# Altium schematic symbol library FPGAboard.SchLib: 46 symbols (part 2 of 2)
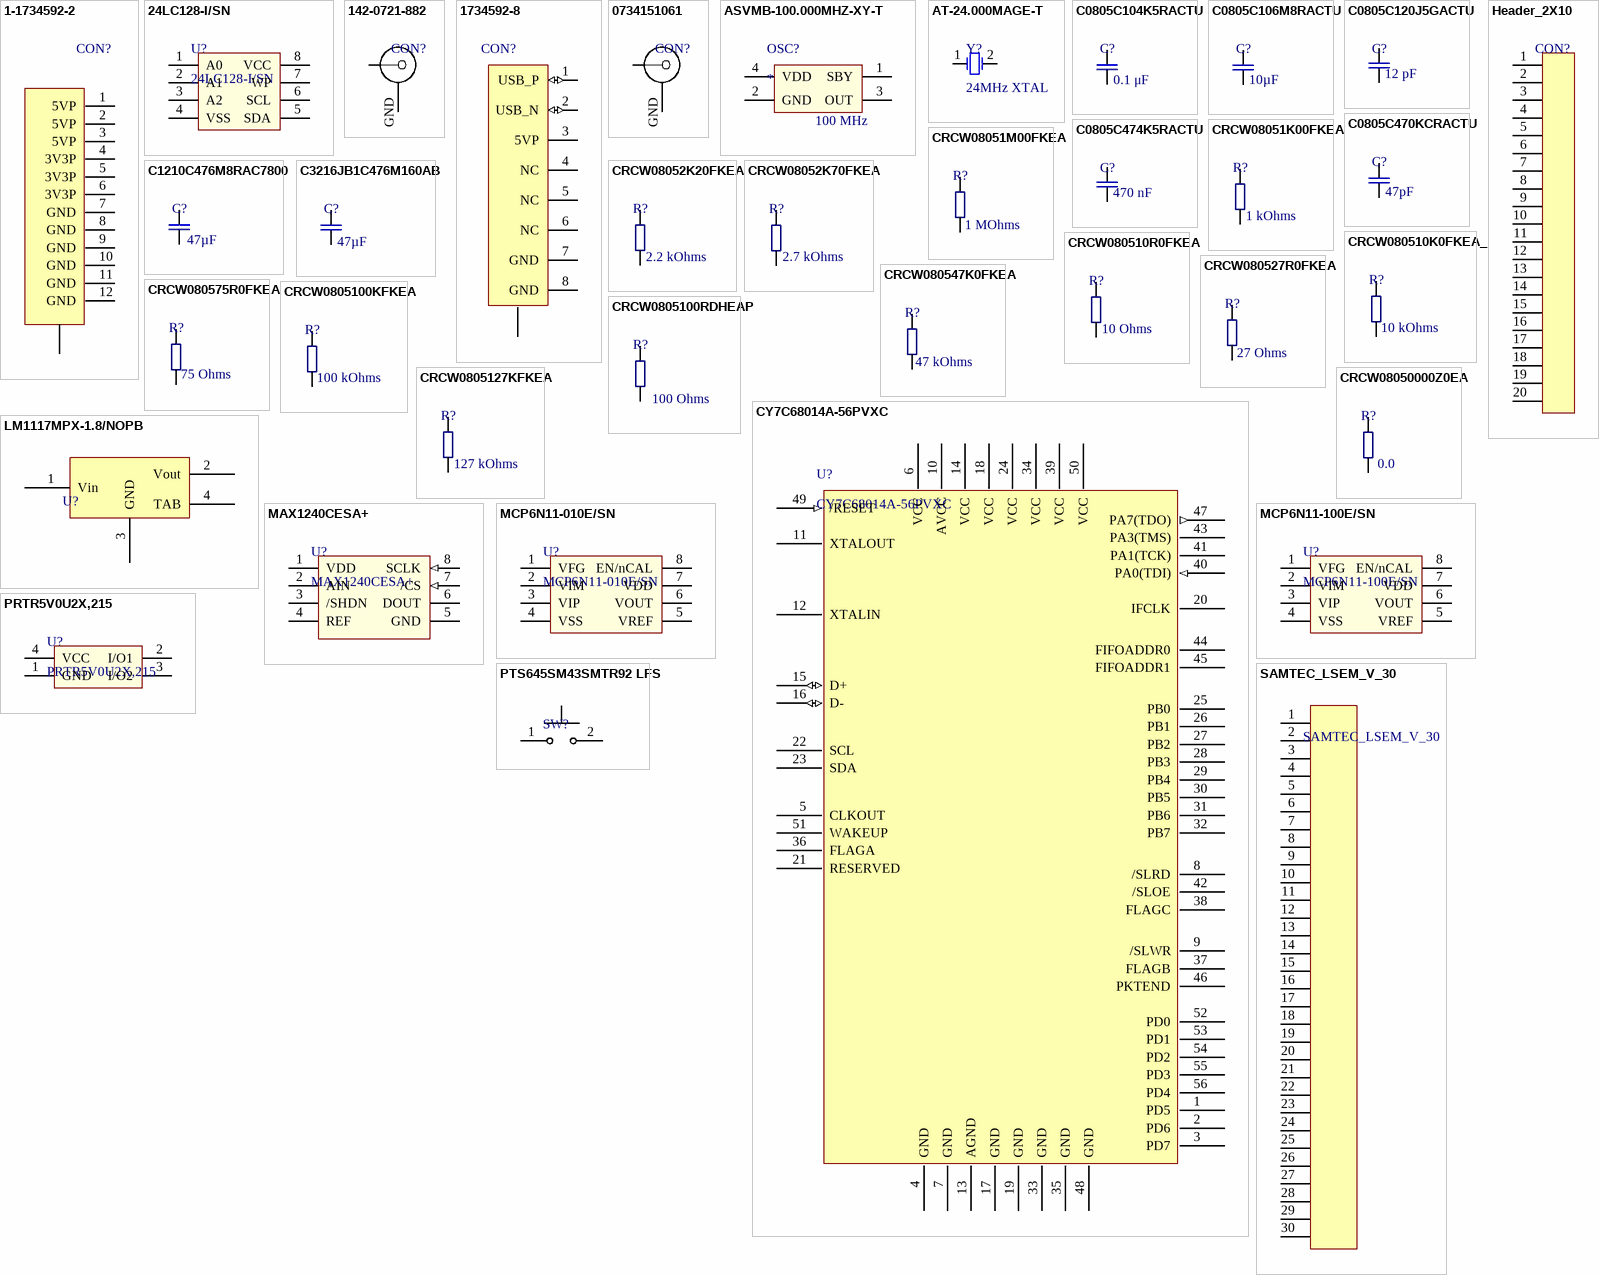
[diagram p2: symbols 1-1734592-2 to SAMTEC_LSEM_V_30]

## CRCW08050000Z0EA
designator R?  Resistance (Ohms): 0.0  (hidden comment: *)
Manufacturer: Vishay; Manufacturer Part Number: CRCW08050000Z0EA; EDA / CAD Models: Download from Accelerated Designs; Tolerance: Jumper; Power (Watts): 0.125W, 1/8W; Online Catalog: CRCW - Automotive Series; Kits: 541-1420-ND  - RESISTOR KIT 0-1M 1/8W 6100PCS; Other Names: 541-0.0ACT; Supplier 1: Digikey; Stock 1: 1015935; Pricing 1: 1=0.1, 10=0.026, 25=0.0184, 50=0.014, 100=0.0104, 250=0.0079, 500=0.0063, 1000=0.0047 (USD); Standard Package: 1; Category: Resistors; Family: Chip Resistor - Surface Mount; Series: CRCW; Packaging: Cut Tape (CT); Composition: Thick Film; Features: Automotive AEC-Q200; Temperature Coefficient: -; Operating Temperature: -55°C ~ 155°C; Package / Case: 0805 (2012 Metric); Supplier Device Package: 0805 (2012 Metric); Size / Dimension: 0.079" L x 0.049" W (2.00mm x 1.25mm); Height: 0.020" (0.50mm); Number of Terminations: 2; ComponentLink1URL: https://datasheet.ciiva.com/16883/dcrcwe3-16883622.pdf; ComponentLink1Description: https://datasheet.ciiva.com/16883/dcrcwe3-16883622.pdf; ComponentLink2URL: https://datasheet.ciiva.com/26314/fld-crcw-e3-data-en-26314630.pdf; ComponentLink2Description: https://datasheet.ciiva.com/26314/fld-crcw-e3-data-en-26314630.pdf; ComponentLink3URL: https://datasheet.ciiva.com/5543/dcrcwe3-109170-5543096.pdf; ComponentLink3Description: https://datasheet.ciiva.com/5543/dcrcwe3-109170-5543096.pdf; ComponentLink4URL: https://datasheet.ciiva.com/11811/0900766b80d98b26-11811304.pdf; ComponentLink4Description: https://datasheet.ciiva.com/11811/0900766b80d98b26-11811304.pdf; ComponentLink5URL: https://datasheet.ciiva.com/16389/dcrcwe3-16389338.pdf; ComponentLink5Description: https://datasheet.ciiva.com/16389/dcrcwe3-16389338.pdf; ComponentLink6URL: https://datasheet.ciiva.com/16719/70201119-16719706.pdf; ComponentLink6Description: https://datasheet.ciiva.com/16719/70201119-16719706.pdf; ComponentLink7URL: https://datasheet.ciiva.com/2463/dcrcwe3-2463037.pdf; ComponentLink7Description: https://datasheet.ciiva.com/2463/dcrcwe3-2463037.pdf; ComponentLink8URL: https://datasheet.ciiva.com/7841/1697337-7841629.pdf; ComponentLink8Description: https://datasheet.ciiva.com/7841/1697337-7841629.pdf; ComponentLink9URL: https://datasheet.ciiva.com/2463/dcrcwe3-2463038.pdf; ComponentLink9Description: https://datasheet.ciiva.com/2463/dcrcwe3-2463038.pdf; ComponentLink10URL: https://datasheet.ciiva.com/2463/dcrcwe3-2463039.pdf; ComponentLink10Description: https://datasheet.ciiva.com/2463/dcrcwe3-2463039.pdf; ComponentLink11URL: https://datasheet.ciiva.com/7841/1720486-7841839.pdf; ComponentLink11Description: https://datasheet.ciiva.com/7841/1720486-7841839.pdf; Supplier Part Number 1: 541-0.0ACT-ND
footprint CRCW0805_VISHAY
pins: 1, 2

## CY7C68014A-56PVXC
designator U?
IC MCU USB PERIPH HI SPD 56SSOP; Manufacturer: Cypress; Core: 8051; Data Bus Width: 8 bit/16 bit; Data RAM Size: 16 KB; Interface Type: GPIF, I2C, USART; Maximum Clock Frequency: 48 MHz; On-Chip ADC: No; Operating Supply Voltage: 3 V to 3.6 V; Number of Programmable I/Os: 24; Number of Timers: 3; Processor Series: CY7C68xx; Program Memory Type: ROMLess; Supply Voltage - Max: 3.6 V; Supply Voltage - Min: 3 V; Supplier 1: Digikey; Manufacturer Part Number: CY7C68014A-56PVXC; Stock 1: 503; Pricing 1: 1=13.46, 10=12.24, 52=11.3219, 104=10.404, 260=9.486, 520=8.874, 1040=8.1396 (USD); Factory Pack Quantity: 26; Mounting Style: SMD/SMT; Maximum Operating Temperature: + 70 C; Minimum Operating Temperature: 0 C; Product Category: 8-bit Microcontrollers - MCU; RoHS: Details; Operating Temperature Range: 0 C to + 70 C; Package / Case: SSOP-56; Packaging: Tube; ComponentLink1URL: https://datasheet.ciiva.com/7627/43447-7627897.pdf; ComponentLink1Description: https://datasheet.ciiva.com/7627/43447-7627897.pdf; ComponentLink2URL: https://datasheet.ciiva.com/5824/43447-5824174.pdf; ComponentLink2Description: https://datasheet.ciiva.com/5824/43447-5824174.pdf; ComponentLink3URL: https://datasheet.ciiva.com/26821/cy7c68014a-56pvxc-26821370.pdf; ComponentLink3Description: https://datasheet.ciiva.com/26821/cy7c68014a-56pvxc-26821370.pdf; Supplier Part Number 1: 428-1673-ND
footprint SSOP-56
pins: 1 PD5, 2 PD6, 3 PD7, 4 GND (power), 5 CLKOUT, 6 VCC (power), 7 GND (power), 8 /SLRD, 9 /SLWR, 10 AVCC (power), 11 XTALOUT, 12 XTALIN, 13 AGND (power), 14 VCC (power), 15 D+ (io), 16 D- (io), 17 GND (power), 18 VCC (power), 19 GND (power), 20 IFCLK, 21 RESERVED, 22 SCL, 23 SDA, 24 VCC (power), 25 PB0, 26 PB1, 27 PB2, 28 PB3, 29 PB4, 30 PB5, 31 PB6, 32 PB7, 33 GND (power), 34 VCC (power), 35 GND (power), 36 FLAGA, 37 FLAGB, 38 FLAGC, 39 VCC (power), 40 PA0(TDI) (in), 41 PA1(TCK), 42 /SLOE, 43 PA3(TMS), 44 FIFOADDR0, 45 FIFOADDR1, 46 PKTEND, 47 PA7(TDO) (out), 48 GND (power), 49 /RESET (in), 50 VCC (power), 51 WAKEUP, 52 PD0, 53 PD1, 54 PD2, 55 PD3, 56 PD4

## Header_2X10
designator CON?  (value not drawn)
Header_2X10
pins: 1, 2, 3, 4, 5, 6, 7, 8, 9, 10, 11, 12, 13, 14, 15, 16, 17, 18, 19, 20

## LM1117MPX-1.8/NOPB
designator U?
LDO; Manufacturer: Texas Instruments (TI) / National Semiconductor; Manufacturer Part Number: LM1117MPX-1.8/NOPB; DELETED: Compliant; Dropout Voltage@Current (Max): 1.2@100mA/1.25@500mA; Dropout Voltage@Current (Typ): 1.1@100mA/1.15@500mA; Input Voltage: 15 V; Line Regulation: 1mV; Number of Outputs: Single; Output Current: 1.5 A; Output Voltage: 1.8 V; Output Voltage Accuracy: ?1 %; Polarity Type: Positive; Quiescent Current (Max): 10 mA; Rad Hardened: No; Regulator Output Type: Fixed; Voltage Regulator Type: Linear; Supplier 1: Digikey; Stock 1: 19027; Pricing 1: 1=1.04, 10=0.927, 100=0.7225, 500=0.5969, 1000=0.4712 (USD); Input Voltage (Max): 15 V; Load Regulation: 1mV; Mounting: Surface Mount; Operating Temp Range: 0C to 125C; Operating Temperature Classification: Commercial; Package Type: SOT-223; Packaging: Tape and Reel; Pin Count: 3 +Tab; Topology: LDO; ComponentLink1URL: https://datasheet.ciiva.com/34302/1282521-34302144.pdf; ComponentLink1Description: https://datasheet.ciiva.com/34302/1282521-34302144.pdf; ComponentLink2URL: https://datasheet.ciiva.com/15111/getdatasheetpartid-112508-15111793.pdf; ComponentLink2Description: https://datasheet.ciiva.com/15111/getdatasheetpartid-112508-15111793.pdf; ComponentLink3URL: https://datasheet.ciiva.com/3223/lm1117-n-3223526.pdf; ComponentLink3Description: https://datasheet.ciiva.com/3223/lm1117-n-3223526.pdf; ComponentLink4URL: https://datasheet.ciiva.com/3223/lm1117-n-3223527.pdf; ComponentLink4Description: https://datasheet.ciiva.com/3223/lm1117-n-3223527.pdf; ComponentLink5URL: https://datasheet.ciiva.com/6591/lm1117-n-6591863.pdf; ComponentLink5Description: https://datasheet.ciiva.com/6591/lm1117-n-6591863.pdf; ComponentLink6URL: https://datasheet.ciiva.com/6591/lm1117-n-6591864.pdf; ComponentLink6Description: https://datasheet.ciiva.com/6591/lm1117-n-6591864.pdf; ComponentLink7URL: https://datasheet.ciiva.com/6591/lm1117-n-6591865.pdf; ComponentLink7Description: https://datasheet.ciiva.com/6591/lm1117-n-6591865.pdf; ComponentLink8URL: https://datasheet.ciiva.com/46386/1882372-46386047.pdf; ComponentLink8Description: https://datasheet.ciiva.com/46386/1882372-46386047.pdf; Supplier Part Number 1: LM1117MPX-1.8/NOPBCT-ND
footprint SOT230P700X180-4N (SOT223, 4-Leads, Body 6.50x7.00mm (avg), Pitch 2.30mm, IPC Medium Density)
pins: 1 Vin (power), 2 Vout (power), 3 GND (power), 4 TAB (power)

## MAX1240CESA+
designator U?
IC ADC 12BIT SERIAL 8-SOIC; Manufacturer: Maxim; Sampling Rate: 73 ksps; Number of Analog Inputs: 1; Architecture: SAR; Digital Interface Type: Serial (3-Wire, SPI, QSPI, Microwire); Input Type: Voltage; Polarity of Input Voltage: Unipolar; Supplier 1: Digikey; Manufacturer Part Number: MAX1240CESA+; Stock 1: 187; Pricing 1: 1=7.97, 10=7.572, 50=7.5226 (USD); Package: 8SOIC N; Resolution: 12 Bit; Category: ADC; ComponentLink1URL: https://datasheet.ciiva.com/14260/max1240-max1241-14260953.pdf; ComponentLink1Description: https://datasheet.ciiva.com/14260/max1240-max1241-14260953.pdf; ComponentLink2URL: https://datasheet.ciiva.com/1317/max1240-max1241-1317695.pdf; ComponentLink2Description: https://datasheet.ciiva.com/1317/max1240-max1241-1317695.pdf; Supplier Part Number 1: MAX1240CESA+-ND
footprint MAX1240CESA+
pins: 1 VDD (power), 2 AIN, 3 /SHDN, 4 REF, 5 GND (power), 6 DOUT, 7 /CS (in), 8 SCLK (in)

## MCP6N11-010E/SN
designator U?
IC OPAMP INSTR 35MHZ RRO 8SOIC; Manufacturer: Microchip; Number of Channels: 1; Number of  Elements: 2; Power Supply Requirement: Single; Common Mode Rejection Ratio: 79dB; Voltage Gain dB: 20dB; Unity Gain Bandwidth Product (Typ): 5MHz; Input Offset Voltage: 500uV; Single Supply Voltage (Typ): 3.3/5V; Dual Supply Voltage (Typ): Not RequiredV; Power Supply Rejection Ratio: 81dB; Rail/Rail I/O Type: Rail to Rail Input/Output; Single Supply Voltage (Min): 1.8V; Single Supply Voltage (Max): 5.5V; Supplier 1: Digi-Key; Manufacturer Part Number: MCP6N11-010E/SN; Stock 1: 314; Pricing 1: 1=1.43, 25=1.198, 100=1.0812 (USD); Type: Instrumentation Amplifier; Dual Supply Voltage (Min): Not RequiredV; Dual Supply Voltage (Max): Not RequiredV; Operating Temp Range: -40C to 125C; Operating Temperature Classification: Automotive; Mounting: Surface Mount; Pin Count: 8; Package Type: SOIC N; Packaging: Rail/Tube; ComponentLink1URL: https://datasheet.ciiva.com/2976/25073a-2976288.pdf; ComponentLink1Description: https://datasheet.ciiva.com/2976/25073a-2976288.pdf; ComponentLink2URL: https://datasheet.ciiva.com/1486/1503745-1486594.pdf; ComponentLink2Description: https://datasheet.ciiva.com/1486/1503745-1486594.pdf; ComponentLink3URL: https://datasheet.ciiva.com/1486/1503745-1486355.pdf; ComponentLink3Description: https://datasheet.ciiva.com/1486/1503745-1486355.pdf; ComponentLink4URL: https://datasheet.ciiva.com/4754/25073a-75155-4754501.pdf; ComponentLink4Description: https://datasheet.ciiva.com/4754/25073a-75155-4754501.pdf; ComponentLink5URL: https://datasheet.ciiva.com/1802/25073a-1802844.pdf; ComponentLink5Description: https://datasheet.ciiva.com/1802/25073a-1802844.pdf; ComponentLink6URL: https://datasheet.ciiva.com/14180/mcp6n11-eng-tds-14180237.pdf; ComponentLink6Description: https://datasheet.ciiva.com/14180/mcp6n11-eng-tds-14180237.pdf; ComponentLink7URL: https://datasheet.ciiva.com/16294/filehandler-aspxddocname-en555932-16294590.pdf; ComponentLink7Description: https://datasheet.ciiva.com/16294/filehandler-aspxddocname-en555932-16294590.pdf; Supplier Part Number 1: MCP6N11-010E/SN-ND
footprint MCP6N11 (SOIC, 8-Leads, Body 4.90x3.90mm, Pitch 1.27mm, IPC Medium Density)
pins: 1 VFG, 2 VIM, 3 VIP, 4 VSS, 5 VREF, 6 VOUT, 7 VDD, 8 EN/nCAL

## MCP6N11-100E/SN
designator U?
IC OPAMP INSTR 35MHZ RRO 8SOIC; Manufacturer: Microchip Technology; Number of Channels: 1; Number of  Elements: 2; Power Supply Requirement: Single; Common Mode Rejection Ratio: 86dB; Single Supply Voltage (Typ): 3.3/5V; Dual Supply Voltage (Typ): Not RequiredV; Rail/Rail I/O Type: Rail to Rail Input/Output; Single Supply Voltage (Min): 1.8V; Single Supply Voltage (Max): 5.5V; Supplier 1: Digikey; Manufacturer Part Number: MCP6N11-100E/SN; Stock 1: 1797; Pricing 1: 1=1.39, 25=1.164, 100=1.0506 (USD); Type: Instrumentation Amplifier; Unity Gain Bandwidth Product (Typ): 35MHz; Power Supply Rejection Ratio: 86dB; Dual Supply Voltage (Min): Not RequiredV; Dual Supply Voltage (Max): Not RequiredV; Operating Temp Range: -40C to 125C; Operating Temperature Classification: Automotive; Mounting: Surface Mount; Pin Count: 8; Package Type: SOIC N; Packaging: Rail/Tube; ComponentLink1URL: https://datasheet.ciiva.com/2976/25073a-2976289.pdf; ComponentLink1Description: https://datasheet.ciiva.com/2976/25073a-2976289.pdf; ComponentLink2URL: https://datasheet.ciiva.com/1486/1503745-1486356.pdf; ComponentLink2Description: https://datasheet.ciiva.com/1486/1503745-1486356.pdf; ComponentLink3URL: https://datasheet.ciiva.com/17372/25073a-17372741.pdf; ComponentLink3Description: https://datasheet.ciiva.com/17372/25073a-17372741.pdf; ComponentLink4URL: https://datasheet.ciiva.com/15128/getdatasheetpartid-433214-15128971.pdf; ComponentLink4Description: https://datasheet.ciiva.com/15128/getdatasheetpartid-433214-15128971.pdf; ComponentLink5URL: https://datasheet.ciiva.com/1802/25073a-1802843.pdf; ComponentLink5Description: https://datasheet.ciiva.com/1802/25073a-1802843.pdf; ComponentLink6URL: https://datasheet.ciiva.com/14180/mcp6n11-eng-tds-14180238.pdf; ComponentLink6Description: https://datasheet.ciiva.com/14180/mcp6n11-eng-tds-14180238.pdf; Supplier Part Number 1: MCP6N11-100E/SN-ND
footprint MCP6N11 (SOIC, 8-Leads, Body 4.90x3.90mm, Pitch 1.27mm, IPC Medium Density)
pins: 1 VFG, 2 VIM, 3 VIP, 4 VSS, 5 VREF, 6 VOUT, 7 VDD, 8 EN/nCAL

## PRTR5V0U2X,215
designator U?
TVS DIODE 5.5VWM SOT143B; Manufacturer: NXP Semiconductors; Capacitance Value: 16pF; Configuration: Quad; Direction Type: Uni-Directional; ESD Protection Voltage: 8KV@Contact Disc; Leakage Current: 0.1uA; Number of  Elements: 1; Product Depth (mm): 1.4 mm; Product Height (mm): 1 mm; Product Length (mm): 3 mm; Rad Hardened: No; Reverse Breakdown Voltage: 6 V; Reverse Stand-off Voltage: 5.5 V; Suppressor Type: Diode Arrays; Working Voltage: 5.5V; Supplier 1: Digi-Key; Manufacturer Part Number: PRTR5V0U2X,215; Stock 1: 73838; Pricing 1: 1=0.52, 10=0.447, 100=0.334, 500=0.2624, 1000=0.2028 (USD); Leakage Current (Max): 0.1uA; Mounting: Surface Mount; Mounting Style: Surface Mount; Operating Temp Range: -40C to 85C; Operating Temperature Classification: Industrial; Operating Temperature Max Deg. C: 85C; Operating Temperature Min Deg. C: -40C; Package / Case: SOT; Package Type: SOT; Packaging: Tape and Reel; Pin Count: 3 +Tab; Polarity: Uni-Directional; Working Voltage (Max): 5.5V; ComponentLink1URL: https://datasheet.ciiva.com/4479/prtr5v0u2x-102853-4479461.pdf; ComponentLink1Description: https://datasheet.ciiva.com/4479/prtr5v0u2x-102853-4479461.pdf; ComponentLink2URL: https://datasheet.ciiva.com/16199/prtr5v0u2x-16199605.pdf; ComponentLink2Description: https://datasheet.ciiva.com/16199/prtr5v0u2x-16199605.pdf; ComponentLink3URL: https://datasheet.ciiva.com/28409/109718-28409830.pdf; ComponentLink3Description: https://datasheet.ciiva.com/28409/109718-28409830.pdf; ComponentLink4URL: https://datasheet.ciiva.com/6918/109718-6918650.pdf; ComponentLink4Description: https://datasheet.ciiva.com/6918/109718-6918650.pdf; ComponentLink5URL: https://datasheet.ciiva.com/335/prtr5v0u2x-335467.pdf; ComponentLink5Description: https://datasheet.ciiva.com/335/prtr5v0u2x-335467.pdf; ComponentLink6URL: https://datasheet.ciiva.com/25919/prtr5v0u2x-25919147.pdf; ComponentLink6Description: https://datasheet.ciiva.com/25919/prtr5v0u2x-25919147.pdf; ComponentLink7URL: https://datasheet.ciiva.com/11193/prtr5v0u2x-11193230.pdf; ComponentLink7Description: https://datasheet.ciiva.com/11193/prtr5v0u2x-11193230.pdf; ComponentLink8URL: https://datasheet.ciiva.com/31402/109718-31402206.pdf; ComponentLink8Description: https://datasheet.ciiva.com/31402/109718-31402206.pdf; ComponentLink9URL: https://datasheet.ciiva.com/26787/prtr5v0u2x-215-26787348.pdf; ComponentLink9Description: https://datasheet.ciiva.com/26787/prtr5v0u2x-215-26787348.pdf; Supplier Part Number 1: 1727-3884-1-ND
footprint SOT143B (SOT143, 4-Leads, Body 2.90x2.30mm, Pitch 1.90mm, IPC Medium Density)
pins: 1 GND, 2 I/O1, 3 I/O2, 4 VCC

## PTS645SM43SMTR92 LFS
designator SW?  (value not drawn)
SWITCH TACTILE SPST-NO 0.05A 12V; Manufacturer: ITT /  C&K Components; Pole Throw Configuration: SPST; Mechanical Life: 100000 Cycles; Switch Configuration: N.O.; Illumination Type: N/R; Ground Terminal: No; Body Orientation: Straight; Actuator Length: 0.85 mm; Maximum Contact Resistance: 100 mOhm; Operating Force: 1.57 N; Actuator Style: Round Button; Dielectric Strength: 250 VAC; Minimum Insulation Resistance: 100000 MOhm; Contact Rating @ Voltage: 0.05@12VDC A; Supplier 1: C&K Components; Manufacturer Part Number: PTS645SM43SMTR92LFS; Stock 1: 468020; Pricing 1: 1=0.15, 10=0.147, 25=0.1416, 50=0.1366, 100=0.129, 250=0.1214, 500=0.1164 (USD); Part No: PTS645SM43SMTR92LFS; RoHS: Yes; Supplier Standard Pack: 1,000; Type: N/A; Maximum AC Voltage Rating: N/A; Family: PTS645; Contact Material: N/A; Actuator Color: N/A; Maximum DC Voltage Rating: 12 V; Seal Description: N/A; Packaging: Tape and Reel; Contact Plating: Silver; Electrical Life: N/A; Housing Material: N/A; Product Weight: N/A; Base Material: N/A; Mounting: Surface Mount,Gull Wing; Seal Location: N/A; Operating Temperature: -20 to 60 C; Dimension: 6 x 9 x 4.3 mm; ComponentLink1URL: https://datasheet.ciiva.com/29903/getdatasheetpartid-786341-29903846.pdf; ComponentLink1Description: https://datasheet.ciiva.com/29903/getdatasheetpartid-786341-29903846.pdf; ComponentLink2URL: https://datasheet.ciiva.com/14920/pts645-14920733.pdf; ComponentLink2Description: https://datasheet.ciiva.com/14920/pts645-14920733.pdf; ComponentLink3URL: https://datasheet.ciiva.com/14920/pts645-14920734.pdf; ComponentLink3Description: https://datasheet.ciiva.com/14920/pts645-14920734.pdf; ComponentLink4URL: https://datasheet.ciiva.com/14920/pts645-14920735.pdf; ComponentLink4Description: https://datasheet.ciiva.com/14920/pts645-14920735.pdf; ComponentLink5URL: https://datasheet.ciiva.com/29931/getdatasheetpartid-764615-29931183.pdf; ComponentLink5Description: https://datasheet.ciiva.com/29931/getdatasheetpartid-764615-29931183.pdf; Supplier Part Number 1: CKN9112CT-ND
footprint PTS645SM43SMTR92 LFS
pins: 1, 2

## SAMTEC_LSEM_V_30
designator CON?
SAMTEC connector
footprint LSEM-130-XX.X-X-DV-A-X-XX-TR
pins: 1, 2, 3, 4, 5, 6, 7, 8, 9, 10, 11, 12, 13, 14, 15, 16, 17, 18, 19, 20, 21, 22, 23, 24, 25, 26, 27, 28, 29, 30

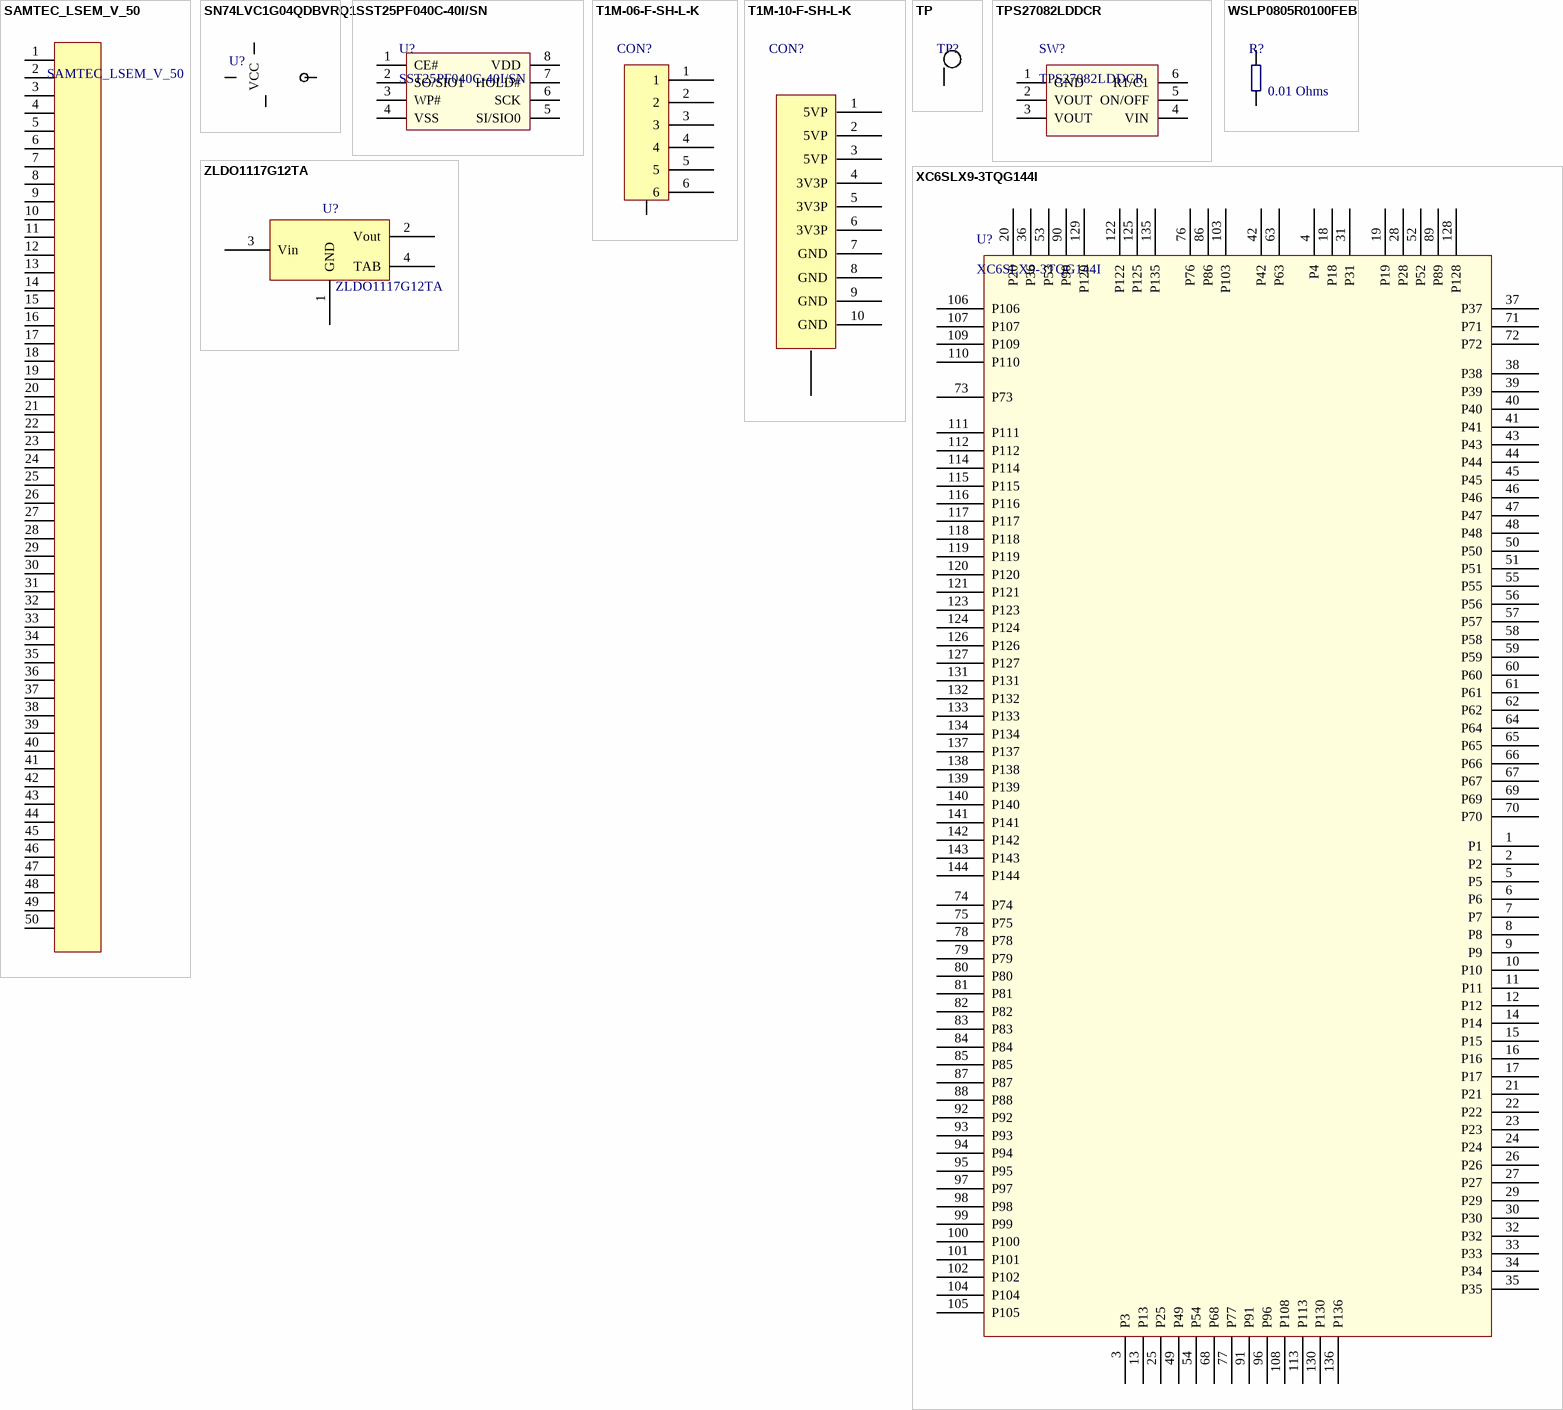
[diagram p1: symbols SAMTEC_LSEM_V_50 to ZLDO1117G12TA]

## SAMTEC_LSEM_V_50
designator CON?
SAMTEC connector
footprint LSEM-150-XX.X-X-DV-A-X-XX-TR
pins: 1, 2, 3, 4, 5, 6, 7, 8, 9, 10, 11, 12, 13, 14, 15, 16, 17, 18, 19, 20, 21, 22, 23, 24, 25, 26, 27, 28, 29, 30, 31, 32, 33, 34, 35, 36, 37, 38, 39, 40, 41, 42, 43, 44, 45, 46, 47, 48, 49, 50

## SN74LVC1G04QDBVRQ1
designator U?  (value not drawn)
IC SNGL INVERTER GATE; Manufacturer: Texas Instruments; Logic Type: Inverter, Buffer; Number of Circuits: 1; Voltage - Supply: 1.65 V ~ 5.5 V; Current - Quiescent (Max): 10µA; Current - Output High, Low: 32mA, 32mA; Logic Level - Low: 0.7 V ~ 0.8 V; Logic Level - High: 1.7 V ~ 2 V; Max Propagation Delay @ V, Max CL: 3.7ns @ 5V, 50pF; Dynamic Catalog: 74LVC; Other Names: 296-26588-6; Supplier 1: Digi-Key; Manufacturer Part Number: SN74LVC1G04QDBVRQ1; Stock 1: 4515; Pricing 1: 1=0.35, 10=0.286, 100=0.1945, 500=0.1458, 1000=0.1094 (USD); Standard Package: 1; Category: Integrated Circuits (ICs); Family: Logic - Gates and Inverters; Series: 74LVC; Number of Inputs: 1; Features: -; Operating Temperature: -40°C ~ 125°C; Mounting Type: Surface Mount; Supplier Device Package: SOT-23-5; Package / Case: SC-74A, SOT-753; Packaging: Digi-Reel®; ComponentLink1URL: https://datasheet.ciiva.com/1864/sn74lvc1g04-q1-1864823.pdf; ComponentLink1Description: https://datasheet.ciiva.com/1864/sn74lvc1g04-q1-1864823.pdf; ComponentLink2URL: https://datasheet.ciiva.com/1864/sn74lvc1g04-q1-1864824.pdf; ComponentLink2Description: https://datasheet.ciiva.com/1864/sn74lvc1g04-q1-1864824.pdf; ComponentLink3URL: https://datasheet.ciiva.com/1864/sn74lvc1g04-q1-1864825.pdf; ComponentLink3Description: https://datasheet.ciiva.com/1864/sn74lvc1g04-q1-1864825.pdf; ComponentLink4URL: https://datasheet.ciiva.com/4219/sces482d-4219660.pdf; ComponentLink4Description: https://datasheet.ciiva.com/4219/sces482d-4219660.pdf; ComponentLink5URL: https://datasheet.ciiva.com/26044/sn74lvc1g04-q1-26044156.pdf; ComponentLink5Description: https://datasheet.ciiva.com/26044/sn74lvc1g04-q1-26044156.pdf; ComponentLink6URL: https://datasheet.ciiva.com/15089/getdatasheetpartid-190022-15089373.pdf; ComponentLink6Description: https://datasheet.ciiva.com/15089/getdatasheetpartid-190022-15089373.pdf; Supplier Part Number 1: 296-26588-1-ND
footprint SN74LVC1G04-Q1 (SOT23, 5-Leads, Body 2.90x2.80mm, Pitch 0.95mm, IPC Medium Density)
pins: 2, 3 GND, 4, 5 VCC

## SST25PF040C-40I/SN
designator U?
FLASH Memory IC 4Mb (512K x 8) SPI 8-SOIC; Manufacturer: Microchip Technology; Memory Size: 4M (512K x 8); Speed: 40MHz; Interface: SPI Serial; Voltage - Supply: 2.3 V ~ 3.6 V; Supplier 1: Digikey; Manufacturer Part Number: SST25PF040C-40I/SN; Stock 1: 868; Pricing 1: 1=0.78 (USD); Category: Integrated Circuits (ICs); Family: Memory; Series: SST25; Packaging: Tube; Format - Memory: FLASH; Memory Type: FLASH; Operating Temperature: -40°C ~ 85°C (TA); Package / Case: 8-SOIC (0.154", 3.90mm Width); Supplier Device Package: 8-SOIC; Supplier Part Number 1: SST25PF040C-40I/SN-ND
pins: 1 CE#, 2 SO/SIO1, 3 WP#, 4 VSS, 5 SI/SIO0, 6 SCK, 7 HOLD#, 8 VDD

## T1M-06-F-SH-L-K
designator CON?
6 Positions Header Connector Surface Mount, Right Angle; Manufacturer: Samtec; Manufacturer Part Number: T1M-06-F-SH-L-K; Supplier 1: Digi-Key; Stock 1: 0; Supplier Part Number 1: SAM11991-ND
footprint T1M-06-F-SH-L-K
pins: 1, 2, 3, 4, 5, 6, GND

## T1M-10-F-SH-L-K
designator CON?
10 Positions Header Connector Surface Mount, Right Angle
footprint T1M-10-F-SH-L-K
pins: 1 5VP (power), 2 5VP (power), 3 5VP (power), 4 3V3P (power), 5 3V3P (power), 6 3V3P (power), 7 GND (power), 8 GND (power), 9 GND (power), 10 GND (power), GND (power)

## TP
designator TP?
Test point
footprint TP (Test point)
pins: 1

## TPS27082LDDCR
designator SW?
IC LOAD SW HIGH SIDE 6SOT; Manufacturer: Texas Instruments (TI); Manufacturer Product Page: TPS27082LDDCR Specifications; EDA / CAD Models: Download from Accelerated Designs; Switch Type: General Purpose; Number of Outputs: 1; Ratio - Input:Output: 1:1; Output Type: P-Channel; Interface: On/Off; Voltage - Load: 1.2 V ~ 8 V; Voltage - Supply (Vcc/Vdd): Not Required; Current - Output (Max): 3A; Rds On (Typ): 32 mOhm; Other Names: 296-35595-6; Supplier 1: Digikey; Manufacturer Part Number: TPS27082LDDCR; Stock 1: 0; Pricing 1: 1=0.54, 10=0.46, 100=0.3432, 500=0.2697, 1000=0.2084 (USD); Standard Package: 1; Category: Integrated Circuits (ICs); Family: PMIC - Power Distribution Switches, Load Drivers; Packaging: Digi-Reel®; Output Configuration: High Side; Features: Slew Rate Controlled; Operating Temperature: -40°C ~ 125°C (TA); Package / Case: SOT-23-6 Thin, TSOT-23-6; Supplier Device Package: 6-SOT; Online Catalog: General Purpose; ComponentLink1URL: https://datasheet.ciiva.com/6602/tps27082l-6602787.pdf; ComponentLink1Description: https://datasheet.ciiva.com/6602/tps27082l-6602787.pdf; ComponentLink2URL: https://datasheet.ciiva.com/6602/tps27082l-6602790.pdf; ComponentLink2Description: https://datasheet.ciiva.com/6602/tps27082l-6602790.pdf; ComponentLink3URL: https://datasheet.ciiva.com/26909/getdatasheetpartid-700474-26909275.pdf; ComponentLink3Description: https://datasheet.ciiva.com/26909/getdatasheetpartid-700474-26909275.pdf; Supplier Part Number 1: 296-35595-1-ND
footprint TPS27082L
pins: 1 GND, 2 VOUT, 3 VOUT, 4 VIN, 5 ON/OFF, 6 R1/C1

## WSLP0805R0100FEB
designator R?  Resistance: 0.01 Ohms
10 mOhms ±1% 0.5W, 1/2W Chip Resistor 0805 (2012 Metric); Manufacturer: Vishay Dale; Manufacturer Part Number: WSLP0805R0100FEB; Power Rating: 500 mW (1/2 W); Temperature Coefficient: 75 PPM / C; Brand: Vishay / Dale; Unit Weight: 0.000194 oz; Supplier 1: Digi-Key; Stock 1: 6918; Pricing 1: 1=1.27, 10=1.125, 25=1.0344, 50=0.9438, 100=0.8168, 250=0.6897, 500=0.5808 (USD); Product Category: Current Sense Resistors - SMD; RoHS: True; Tolerance: 1 %; Technology: Metal Element; Case Code - in: 0805; Case Code - mm: 2012; Operating Temperature Range: - 65 C to + 170 C; Series: WSLP; Height: 0.33 mm; Length: 2 mm; Package / Case: 0805 (2012 metric); Packaging: Reel; Product: Metal Foil Current Sensing Resistors; Factory Pack Quantity: 1000; Termination Style: SMD/SMT; Type: Power Metal Strip Resistors, Very High Power (to 3 W), Low Value (down to 0.0005 Ohms), Surface Mount; Width: 1.2 mm; ComponentLink1URL: http://www.mouser.com/ds/2/427/wslp-101920.pdf; ComponentLink1Description: http://www.mouser.com/ds/2/427/wslp-101920.pdf; ComponentLink2URL: http://www.vishay.com/docs/30122/wslp.pdf; ComponentLink2Description: http://www.vishay.com/docs/30122/wslp.pdf; Supplier Part Number 1: WSLPB-.01CT-ND
footprint CRCW0805_VISHAY
pins: 1, 2

## XC6SLX9-3TQG144I
designator U?
IC FPGA 102 I/O 144TQFP; Manufacturer: Xilinx; Product Training Modules: S6 Family Overview; PCN Design/Specification: Shipping Tray TQ144 and TQG144 12/Aug/2013; Number of LABs/CLBs: 715; Number of Logic Elements/Cells: 9152; Total RAM Bits: 589824; Number of I/O: 102; Voltage - Supply: 1.14 V ~ 1.26 V; Online Catalog: Spartan®-6 LX; For Use With: 1286-1046-ND                                                          - BOARD CMOD S6 FPGA 48DIP                                                     102990017-ND                                                          - PAPILIO PRO                                                     DEV-11953-ND                                                          - DEV BOARD MOJO V3 FPGA; Other Names: 122-1748  XC6SLX9-3TQG144I-ND  XC6SLX93TQG144I; Supplier 1: Digikey; Manufacturer Part Number: XC6SLX9-3TQG144I; Stock 1: 2437; Pricing 1: 1=20.86 (USD); Standard Package: 1; Category: Integrated Circuits (ICs); Family: Embedded - FPGAs (Field Programmable Gate Array); Series: Spartan® 6 LX; Number of Gates: -; Mounting Type: Surface Mount; Operating Temperature: -40°C ~ 100°C (TJ); Package / Case: 144-LQFP; Supplier Device Package: 144-TQFP (20x20); ComponentLink1URL: https://datasheet.ciiva.com/1442/ds160-1442503.pdf; ComponentLink1Description: https://datasheet.ciiva.com/1442/ds160-1442503.pdf; Supplier Part Number 1: 122-1748-ND
footprint TQG144 (TQG144, 144-Leads, Body 20.00x20.00mm, Pitch 0.50mm,)
pins: 1 P1, 2 P2, 3 P3, 4 P4, 5 P5, 6 P6, 7 P7, 8 P8, 9 P9, 10 P10, 11 P11, 12 P12, 13 P13, 14 P14, 15 P15, 16 P16, 17 P17, 18 P18, 19 P19, 20 P20, 21 P21, 22 P22, 23 P23, 24 P24, 25 P25, 26 P26, 27 P27, 28 P28, 29 P29, 30 P30, 31 P31, 32 P32, 33 P33, 34 P34, 35 P35, 36 P36, 37 P37, 38 P38, 39 P39, 40 P40, 41 P41, 42 P42, 43 P43, 44 P44, 45 P45, 46 P46, 47 P47, 48 P48, 49 P49, 50 P50, 51 P51, 52 P52, 53 P53, 54 P54, 55 P55, 56 P56, 57 P57, 58 P58, 59 P59, 60 P60, 61 P61, 62 P62, 63 P63, 64 P64, 65 P65, 66 P66, 67 P67, 68 P68, 69 P69, 70 P70, 71 P71, 72 P72, 73 P73, 74 P74, 75 P75, 76 P76, 77 P77, 78 P78, 79 P79, 80 P80, 81 P81, 82 P82, 83 P83, 84 P84, 85 P85, 86 P86, 87 P87, 88 P88, 89 P89, 90 P90, 91 P91, 92 P92, 93 P93, 94 P94, 95 P95, 96 P96, 97 P97, 98 P98, 99 P99, 100 P100, 101 P101, 102 P102, 103 P103, 104 P104, 105 P105, 106 P106, 107 P107, 108 P108, 109 P109, 110 P110, 111 P111, 112 P112, 113 P113, 114 P114, 115 P115, 116 P116, 117 P117, 118 P118, 119 P119, 120 P120, 121 P121, 122 P122, 123 P123, 124 P124, 125 P125, 126 P126, 127 P127, 128 P128, 129 P129, 130 P130, 131 P131, 132 P132, 133 P133, 134 P134, 135 P135, 136 P136, 137 P137, 138 P138, 139 P139, 140 P140, 141 P141, 142 P142, 143 P143, 144 P144

## ZLDO1117G12TA
designator U?
Linear Voltage Regulator IC Positive Fixed Output 1.2V 1A SOT-223-3; Manufacturer: Diodes / Zetex; Minimum Input Voltage: 2.7 V; Maximum Input Voltage: 18 V; Regulator Function: LDO; Number of Outputs: 1; Accuracy: 2%; Reference Voltage: 1.25V; Quiescent Current: 10mA; Line Regulation: 0.2 %; Load Regulation: 0.4 %; Typical Dropout Voltage @ Current: 1.11V; Supplier 1: Digikey; Stock 1: 0; Pricing 1: 1=0.5, 10=0.425, 100=0.3172, 500=0.2493 (USD); Output Voltage: 1.2 V; Maximum Output Current: 1A; Package Type: SOT-223; Output Type: Fixed; Mounting Type: Surface Mount; Pin Count: 3+Tab; Minimum Operating Temperature: -40 °C; Maximum Operating Temperature: +125 °C; Polarity: Positive; Width: 3.7mm; Dropout Voltage Measurement Current: 1 A; Height: 1.7mm; Series: ZLDO1117; Length: 6.7mm; Dimensions: 6.7 x 3.7 x 1.7mm; ComponentLink1URL: https://datasheet.ciiva.com/17365/zldo1117-17365742.pdf; ComponentLink1Description: https://datasheet.ciiva.com/17365/zldo1117-17365742.pdf; Supplier Part Number 1: ZLDO1117G12DICT-ND; Manufacturer Part Number: ZLDO1117G12TA
footprint SOT230P700X180-4N (SOT223, 4-Leads, Body 6.50x7.00mm (avg), Pitch 2.30mm, IPC Medium Density)
pins: 1 GND (power), 2 Vout (power), 3 Vin (power), 4 TAB (power)